# Altium footprint library PcbLib1.PcbLib: 9 footprints
Each footprint in its own frame and in the unit in brackets; x right, y up, seen from the top. Pads: shape width x height; smd on the part's side, far side on the other; paste and mask are expansions set on the pad; w line width, h text height; cw(c..) or ccw(c..) is an arc to the next point about the centre after c.
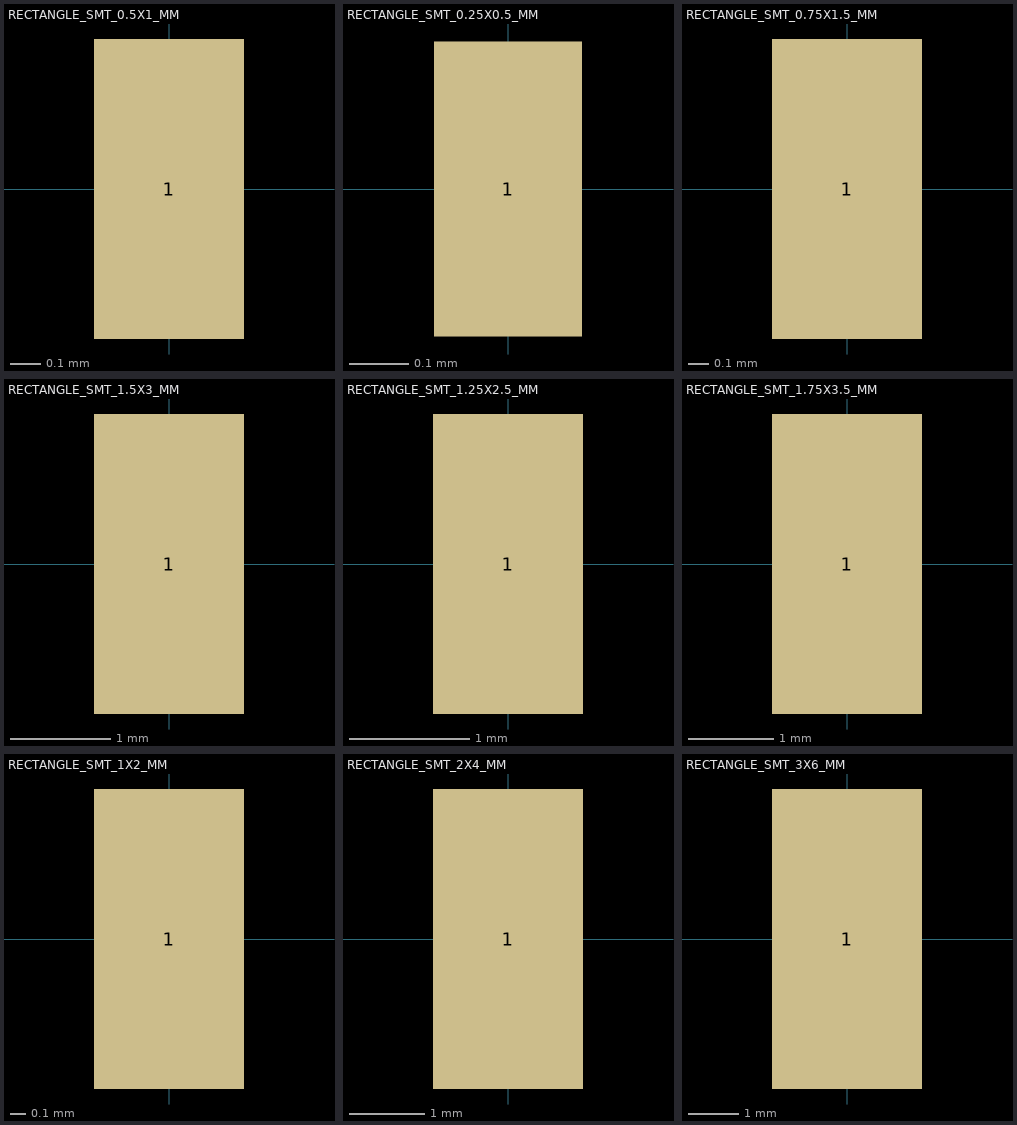
[diagram p0: the footprints below, top view; thin cyan lines are the x and y axes]

## RECTANGLE_SMT_0.5X1_MM [mm]
pads (1):
  rect 0.5x1 smd: 1(0,0)

## RECTANGLE_SMT_0.25X0.5_MM [mm]
pads (1):
  rect 0.25x0.5 smd: 1(0,0)

## RECTANGLE_SMT_0.75X1.5_MM [mm]
pads (1):
  rect 0.75x1.5 smd: 1(0,0)

## RECTANGLE_SMT_1.5X3_MM [mm]
pads (1):
  rect 1.5x3 smd: 1(0,0)

## RECTANGLE_SMT_1.25X2.5_MM [mm]
pads (1):
  rect 1.25x2.5 smd: 1(0,0)

## RECTANGLE_SMT_1.75X3.5_MM [mm]
pads (1):
  rect 1.75x3.5 smd: 1(0,0)

## RECTANGLE_SMT_1X2_MM [mm]
pads (1):
  rect 1x2 smd: 1(0,0)

## RECTANGLE_SMT_2X4_MM [mm]
pads (1):
  rect 2x4 smd: 1(0,0)

## RECTANGLE_SMT_3X6_MM [mm]
pads (1):
  rect 3x6 smd: 1(0,0)